# EAGLE library part JACK-RJ45-08 (library WarthogRobotics-Connectors)
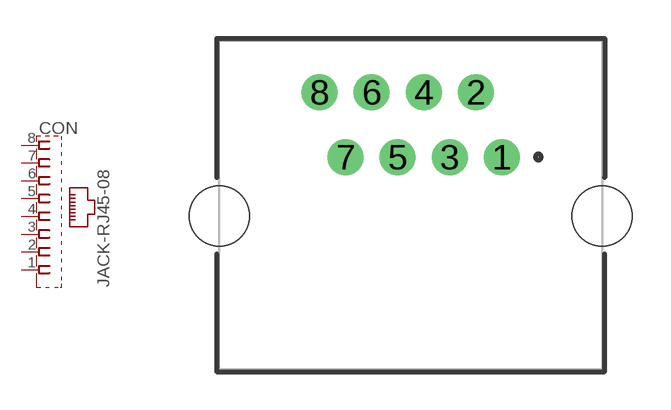
[diagram p1: symbol with the pads of RJ45-8-FEMALE; footprint RJ45-8-FEMALE]

Designator prefix CON

## JACK-RJ45-08  [RJ45-8-FEMALE]
1  T+  pas
2  T-  pas
3  R+  pas
4  RES1  pas
5  RES2  pas
6  R-  pas
7  RES3  pas
8  RES4  pas

## Footprint RJ45-8-FEMALE (pad centres in mm)
WR-MJ Modular Jack Horizontal Plastic 8P8C Tab Up
drill 0.9: 1 3.57,1.875; 2 2.55,4.415; 3 1.53,1.875; 4 0.51,4.415; 5 -0.51,1.875; 6 -1.53,4.415; 7 -2.55,1.875; 8 -3.57,4.415
hole 2.36 at -7.5,-0.425
hole 2.36 at 7.5,-0.425